# Altium schematic symbol library u78F1142A.SchLib: 1 symbol
Pins are listed as number, name and electrical type; pins without a type are passive.

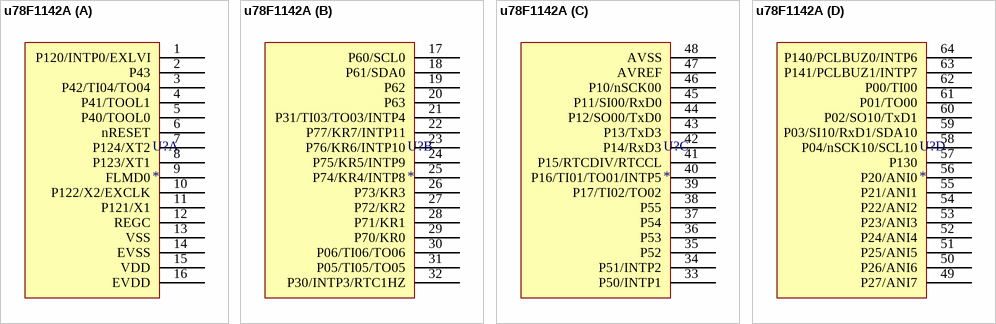
[diagram p0: symbol u78F1142A]

## u78F1142A
designator U?
16-bit Low-power Microcontroller
footprint QFP50P1200X1200X160-64N
part A pins: 1 P120/INTP0/EXLVI, 2 P43, 3 P42/TI04/TO04, 4 P41/TOOL1, 5 P40/TOOL0, 6 nRESET, 7 P124/XT2, 8 P123/XT1, 9 FLMD0, 10 P122/X2/EXCLK, 11 P121/X1, 12 REGC, 13 VSS, 14 EVSS, 15 VDD, 16 EVDD
part B pins: 17 P60/SCL0, 18 P61/SDA0, 19 P62, 20 P63, 21 P31/TI03/TO03/INTP4, 22 P77/KR7/INTP11, 23 P76/KR6/INTP10, 24 P75/KR5/INTP9, 25 P74/KR4/INTP8, 26 P73/KR3, 27 P72/KR2, 28 P71/KR1, 29 P70/KR0, 30 P06/TI06/TO06, 31 P05/TI05/TO05, 32 P30/INTP3/RTC1HZ
part C pins: 33 P50/INTP1, 34 P51/INTP2, 35 P52, 36 P53, 37 P54, 38 P55, 39 P17/TI02/TO02, 40 P16/TI01/TO01/INTP5, 41 P15/RTCDIV/RTCCL, 42 P14/RxD3, 43 P13/TxD3, 44 P12/SO00/TxD0, 45 P11/SI00/RxD0, 46 P10/nSCK00, 47 AVREF, 48 AVSS
part D pins: 49 P27/ANI7, 50 P26/ANI6, 51 P25/ANI5, 52 P24/ANI4, 53 P23/ANI3, 54 P22/ANI2, 55 P21/ANI1, 56 P20/ANI0, 57 P130, 58 P04/nSCK10/SCL10, 59 P03/SI10/RxD1/SDA10, 60 P02/SO10/TxD1, 61 P01/TO00, 62 P00/TI00, 63 P141/PCLBUZ1/INTP7, 64 P140/PCLBUZ0/INTP6